# EAGLE library part MFRC531 (library mfrc531)
MFRC531 Standard ISO/IEC 14443 A/B reader solution
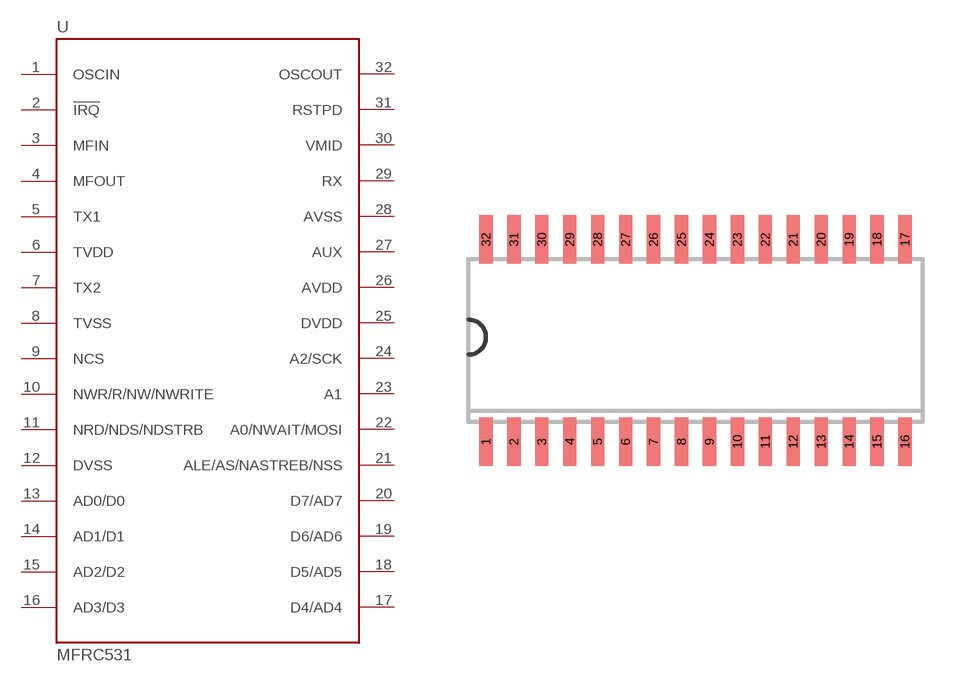
[diagram p0: symbol with the pads of SO32; footprint SO32]

Designator prefix -

## MFRC531  [SO32]
1  OSCIN
2  !IRQ
3  MFIN
4  MFOUT
5  TX1
6  TVDD
7  TX2
8  TVSS
9  NCS
10  NWR/R/NW/NWRITE
11  NRD/NDS/NDSTRB
12  DVSS
13  AD0/D0
14  AD1/D1
15  AD2/D2
16  AD3/D3
17  D4/AD4
18  D5/AD5
19  D6/AD6
20  D7/AD7
21  ALE/AS/NASTREB/NSS
22  A0/NWAIT/MOSI
23  A1
24  A2/SCK
25  DVDD
26  AVDD
27  AUX
28  AVSS
29  RX
30  VMID
31  RSTPD
32  OSCOUT

## Footprint SO32 (pad centres in mm)
smd 0.6 x 2.2: 1 -9.525,-4.6; 2 -8.255,-4.6; 3 -6.985,-4.6; 4 -5.715,-4.6; 5 -4.445,-4.6; 6 -3.175,-4.6; 7 -1.905,-4.6; 8 -0.635,-4.6; 9 0.635,-4.6; 10 1.905,-4.6; 11 3.175,-4.6; 12 4.445,-4.6; 13 5.715,-4.6; 14 6.985,-4.6; 15 8.255,-4.6; 16 9.525,-4.6; 17 9.525,4.6; 18 8.255,4.6; 19 6.985,4.6; 20 5.715,4.6; 21 4.445,4.6; 22 3.175,4.6; 23 1.905,4.6; 24 0.635,4.6; 25 -0.635,4.6; 26 -1.905,4.6; 27 -3.175,4.6; 28 -4.445,4.6; 29 -5.715,4.6; 30 -6.985,4.6; 31 -8.255,4.6; 32 -9.525,4.6